# Altium schematic symbol library Trans_Vishay_SI2312BDS-T1-E3_eec.SchLib: 1 symbol
Pins are listed as number, name and electrical type; pins without a type are passive.

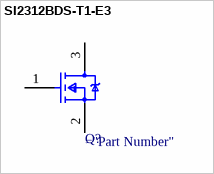
[diagram p0: symbol SI2312BDS-T1-E3]

## SI2312BDS-T1-E3
designator Q?  (value not drawn)
pins: 1 G, 2 S, 3 D